# EAGLE library part BURNIN (library scono)
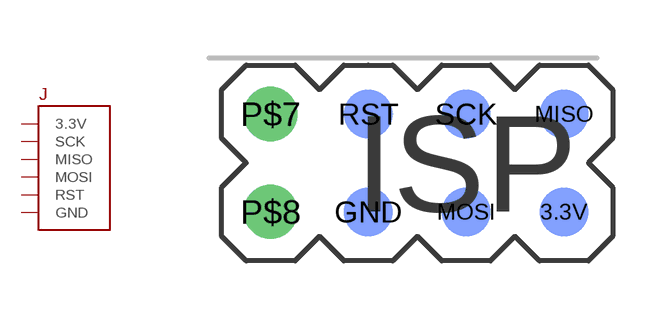
[diagram p70: symbol with the pads of BURNIN; footprint BURNIN]

Designator prefix J

## BURNIN  [BURNIN]
3.3V  3.3V  sup
GND  GND  sup
MISO  MISO
MOSI  MOSI
RST  RST
SCK  SCK

## Footprint BURNIN (pad centres in mm)
smd 1.27 x 1.27 bottom: 3.3V 0,0; GND -5.08,0; MISO 0,2.54; MOSI -2.54,0; RST -5.08,2.54; SCK -2.54,2.54
drill 0.9: P$7 -7.62,2.54; P$8 -7.62,0